# EAGLE library part WE-RJ45_7499031001A (library WE-RJ45_LAN)
WE-RJ45 LAN Transformer Characteristics RJ45 Connector with integrated transformer / common mode choke Power over Ethernet up to 50 Watt and speeds up to 10 Gbit/s Available in SMD, THT and THT with USB Compliant with standards: IEEE 802.3u, IEEE 802.3ab, IEEE 802.3af, IEEE 802.3at, IEEE 802.3an and upcoming IEE 802.3bt Applications Suitable for industrial temperatures from –40 °C up to +85 °C Compatible to Industrial Ethernet systems like EtherCAT or Profinet Compliant with most IC’s for Ethernet applications such as Microchip, Texas Instruments, Broadcom, Linear Technology Hubs, Routers, Switches, IP cameras, IoT applications <https://www.we-online.com/components/media/o35731v209%20Family-WE-RJ45LAN-7499xxxxxx.jpg> Details see: www.we-online.com/components/products/WE-LAN-RJ45 <www.we-online.com/catalog/WE-LAN-RJ45/?utm_source=eagle_model&utm_medium=description_link&utm_campaign=eisos_eagle> Updated by Ella Wu 2019-08-05 2019 (C) Wurth Elektronik
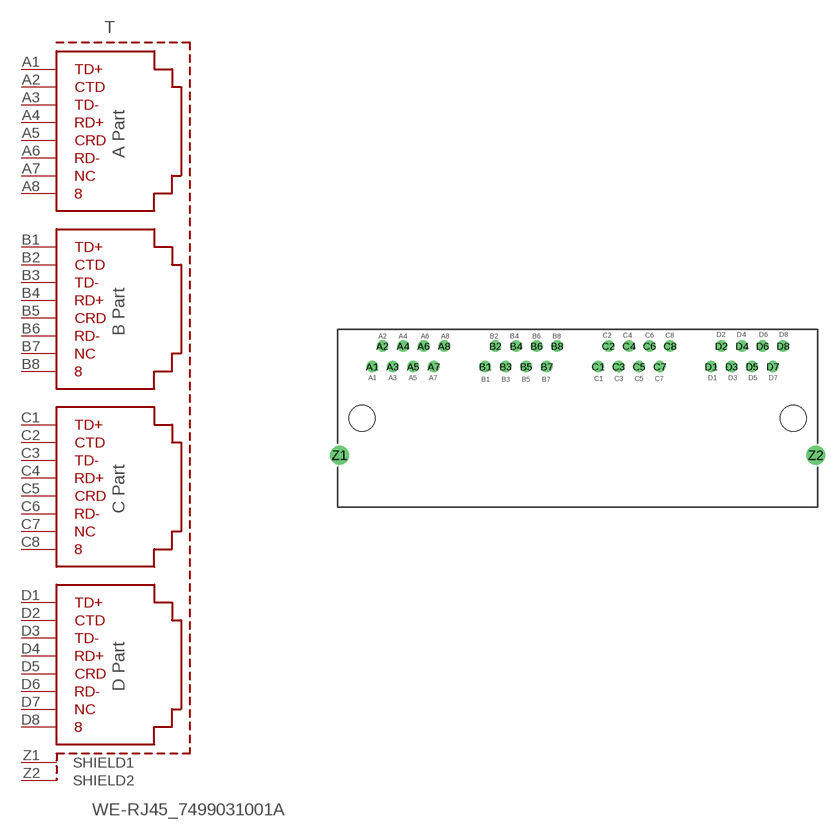
[diagram p35: symbol with the pads of 7499031001A; footprint 7499031001A]

Designator prefix T

## WE-RJ45_7499031001A (DATA-RATE: 10/100 Base-T; DATASHEET-URL: https://www.we-online.com/redexpert/spec/7499031001A?ae; IMPROVED-CMRR: -; LED: -; MOUNT: THT; OPERATING-TEMPERATURE: -; PART-NUMBER: 7499031001A; PHY-CHIP-MODE: -; POE: non-PoE; PORTS: 1x4; SHIELD-TABS: -; TAB: -; USB: No; VALUE: 7499031001A)  [7499031001A]
A1  A1  pas
A2  A2  pas
A3  A3  pas
A4  A4  pas
A5  A5  pas
A6  A6  pas
A7  A7  pas
A8  A8  pas
B1  B1  pas
B2  B2  pas
B3  B3  pas
B4  B4  pas
B5  B5  pas
B6  B6  pas
B7  B7  pas
B8  B8  pas
C1  C1  pas
C2  C2  pas
C3  C3  pas
C4  C4  pas
C5  C5  pas
C6  C6  pas
C7  C7  pas
C8  C8  pas
D1  D1  pas
D2  D2  pas
D3  D3  pas
D4  D4  pas
D5  D5  pas
D6  D6  pas
D7  D7  pas
D8  D8  pas
Z1  SHIELD1  pas
Z2  SHIELD2  pas

## Footprint 7499031001A (pad centres in mm)
WE-RJ45 LAN Transformer 10/100 Base-T
drill 0.9: A1 -25.4,6.35; A2 -24.13,8.89; A3 -22.86,6.35; A4 -21.59,8.89; A5 -20.32,6.35; A6 -19.05,8.89; A7 -17.78,6.35; A8 -16.51,8.89; B1 -11.43,6.35; B2 -10.16,8.89; B3 -8.89,6.35; B4 -7.62,8.89; B5 -6.35,6.35; B6 -5.08,8.89; B7 -3.81,6.35; B8 -2.54,8.89; C1 2.54,6.35; C2 3.81,8.89; C3 5.08,6.35; C4 6.35,8.89; C5 7.62,6.35; C6 8.89,8.89; C7 10.16,6.35; C8 11.43,8.89; D1 16.51,6.35; D2 17.78,8.89; D3 19.05,6.35; D4 20.32,8.89; D5 21.59,6.35; D6 22.86,8.89; D7 24.13,6.35; D8 25.4,8.89
drill 1.57: Z1 -29.455,-4.6; Z2 29.455,-4.6
hole 3.2 at -26.67,0
hole 3.2 at 26.67,0